# Altium footprint library boards.PcbLib: 2 footprints
Each footprint in its own frame and in the unit in brackets; x right, y up, seen from the top. Pads: shape width x height; smd on the part's side, far side on the other; paste and mask are expansions set on the pad; w line width, h text height; cw(c..) or ccw(c..) is an arc to the next point about the centre after c.
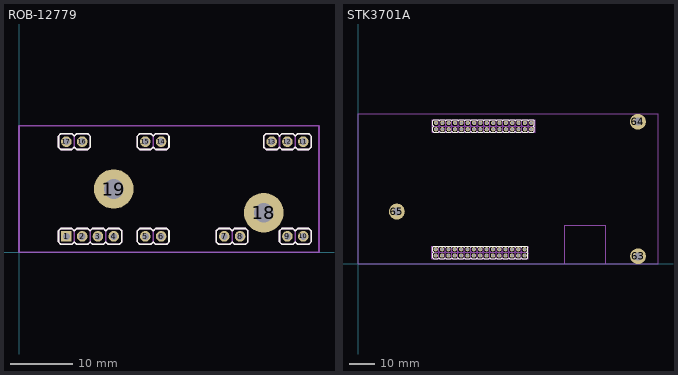
[diagram p0: the footprints below, top view; thin cyan lines are the x and y axes]

## ROB-12779 [mm] "EasyDriver - Stepper Motor Driver"
pads (19):
  rect 1.705x1.705 hole 1.105: 1(7.62,2.54)
  round 1.705 hole 1.105: 2(10.16,2.54) 3(12.7,2.54) 4(15.24,2.54) 5(20.32,2.54) 6(22.86,2.54) 7(33.02,2.54) 8(35.56,2.54) 9(43.18,2.54) 10(45.72,2.54) 11(45.72,17.78) 12(43.18,17.78) 13(40.64,17.78) 14(22.86,17.78) 15(20.32,17.78) 16(10.16,17.78) 17(7.62,17.78)
  round 6.35 hole 3.175: 18(39.37,6.35) 19(15.24,10.16)
Top Overlay:
  lines w0.254: 6.35,1.651 6.35,2.54 6.35,3.429 6.731,3.81 8.382,3.81 8.509,3.81 8.89,3.429 9.271,3.81 10.922,3.81 11.049,3.81 11.43,3.429 11.811,3.81 13.462,3.81 13.589,3.81 13.97,3.429 14.351,3.81 16.002,3.81 16.129,3.81 16.51,3.429 16.51,2.54 16.51,1.651 16.129,1.27 14.351,1.27 13.97,1.651 13.589,1.27 11.811,1.27 11.43,1.651 11.049,1.27 9.271,1.27 8.89,1.651 8.509,1.27 6.731,1.27 6.35,1.651 ; 6.35,16.891 6.35,17.78 6.35,18.669 6.731,19.05 8.382,19.05 8.509,19.05 8.89,18.669 9.271,19.05 10.922,19.05 11.049,19.05 11.43,18.669 11.43,17.78 11.43,16.891 11.049,16.51 9.271,16.51 8.89,16.891 8.509,16.51 6.731,16.51 6.35,16.891 ; 19.05,1.651 19.431,1.27 21.209,1.27 21.59,1.651 21.971,1.27 23.749,1.27 24.13,1.651 24.13,2.54 24.13,3.429 23.749,3.81 23.622,3.81 21.971,3.81 21.59,3.429 21.209,3.81 21.082,3.81 19.431,3.81 19.05,3.429 19.05,2.54 19.05,1.651 ; 19.05,16.891 19.05,17.78 19.05,18.669 19.431,19.05 21.082,19.05 21.209,19.05 21.59,18.669 21.971,19.05 23.622,19.05 23.749,19.05 24.13,18.669 24.13,17.78 24.13,16.891 23.749,16.51 21.971,16.51 21.59,16.891 21.209,16.51 19.431,16.51 19.05,16.891 ; 31.75,1.651 32.131,1.27 33.909,1.27 34.29,1.651 34.671,1.27 36.449,1.27 36.83,1.651 36.83,2.54 36.83,3.429 36.449,3.81 36.322,3.81 34.671,3.81 34.29,3.429 33.909,3.81 33.782,3.81 32.131,3.81 31.75,3.429 31.75,2.54 31.75,1.651 ; 39.37,16.891 39.751,16.51 41.529,16.51 41.91,16.891 42.291,16.51 44.069,16.51 44.45,16.891 44.831,16.51 46.609,16.51 46.99,16.891 46.99,17.78 46.99,18.669 46.609,19.05 46.482,19.05 44.831,19.05 44.45,18.669 44.069,19.05 43.942,19.05 42.291,19.05 41.91,18.669 41.529,19.05 41.402,19.05 39.751,19.05 39.37,18.669 39.37,17.78 39.37,16.891 ; 41.91,1.651 41.91,2.54 41.91,3.429 42.291,3.81 43.942,3.81 44.069,3.81 44.45,3.429 44.831,3.81 46.482,3.81 46.609,3.81 46.99,3.429 46.99,2.54 46.99,1.651 46.609,1.27 44.831,1.27 44.45,1.651 44.069,1.27 42.291,1.27 41.91,1.651
Mechanical 1:
  lines w0.254: 0,0 0,20.32 48.26,20.32 48.26,0 0,0
Mechanical 13:
  drawing of 194 lines, arcs and shapes, not listed
3D body: height 11.43, standoff -3.05, extent 42.862,2.222 43.497,2.857
3D body: height 2.54, standoff 0, extent 41.91,1.27 44.45,3.81
3D body: height 2.54, standoff 0, extent 44.45,1.27 46.99,3.81
3D body: height 11.43, standoff -3.05, extent 45.402,2.222 46.038,2.857
3D body: height 11.43, standoff -3.05, extent 20.002,17.462 20.637,18.098
3D body: height 2.54, standoff 0, extent 19.05,16.51 21.59,19.05
3D body: height 2.54, standoff 0, extent 21.59,16.51 24.13,19.05
3D body: height 11.43, standoff -3.05, extent 22.543,17.462 23.177,18.098
3D body: height 2.54, standoff 0, extent 6.35,1.27 8.89,3.81
3D body: height 11.43, standoff -3.05, extent 7.302,2.222 7.938,2.857
3D body: height 11.43, standoff -3.05, extent 14.922,2.222 15.557,2.857
3D body: height 2.54, standoff 0, extent 13.97,1.27 16.51,3.81
3D body: height 2.54, standoff 0, extent 11.43,1.27 13.97,3.81
3D body: height 11.43, standoff -3.05, extent 12.383,2.222 13.018,2.857
3D body: height 11.43, standoff -3.05, extent 9.842,2.222 10.477,2.857
3D body: height 2.54, standoff 0, extent 8.89,1.27 11.43,3.81
3D body: height 11.43, standoff -3.05, extent 7.302,17.462 7.938,18.098
3D body: height 2.54, standoff 0, extent 6.35,16.51 8.89,19.05
3D body: height 2.54, standoff 0, extent 8.89,16.51 11.43,19.05
3D body: height 11.43, standoff -3.05, extent 9.842,17.462 10.477,18.098
3D body: height 2.54, standoff 0, extent 39.37,16.51 41.91,19.05
3D body: height 11.43, standoff -3.05, extent 40.322,17.462 40.957,18.098
3D body: height 11.43, standoff -3.05, extent 42.862,17.462 43.497,18.098
3D body: height 2.54, standoff 0, extent 41.91,16.51 44.45,19.05
3D body: height 2.54, standoff 0, extent 44.45,16.51 46.99,19.05
3D body: height 11.43, standoff -3.05, extent 45.402,17.462 46.038,18.098
3D body: height 11.43, standoff -3.05, extent 22.543,2.222 23.177,2.857
3D body: height 2.54, standoff 0, extent 21.59,1.27 24.13,3.81
3D body: height 2.54, standoff 0, extent 19.05,1.27 21.59,3.81
3D body: height 11.43, standoff -3.05, extent 20.002,2.222 20.637,2.857
3D body: height 11.43, standoff -3.05, extent 35.242,2.222 35.877,2.857
3D body: height 2.54, standoff 0, extent 34.29,1.27 36.83,3.81
3D body: height 2.54, standoff 0, extent 31.75,1.27 34.29,3.81
3D body: height 11.43, standoff -3.05, extent 32.703,2.222 33.337,2.857

## STK3701A [mm]
pads (65):
  round 1.705 hole 1.105: 1(31.21,56.426) 2(31.21,53.886) 3(33.75,56.426) 4(33.75,53.886) 5(36.29,56.426) 6(36.29,53.886) 7(38.83,56.426) 8(38.83,53.886) 9(41.37,56.426) 10(41.37,53.886) 11(43.91,56.426) 12(43.91,53.886) 13(46.45,56.426) 14(46.45,53.886) 15(48.99,56.426) 16(48.99,53.886) 17(51.53,56.426) 18(51.53,53.886) 19(54.07,56.426) 20(54.07,53.886) 21(56.61,56.426) 22(56.61,53.886) 23(59.15,56.426) 24(59.15,53.886) 25(61.69,56.426) 26(61.69,53.886) 27(64.23,56.426) 28(64.23,53.886) 29(66.77,56.426) 30(66.77,53.886) 31(69.31,56.426) 32(69.31,53.886) 33(31.1,5.893) 34(31.1,3.353) 35(33.64,5.893) 36(33.64,3.353) 37(36.18,5.893) 38(36.18,3.353) 39(38.72,5.893) 40(38.72,3.353) 41(41.26,5.893) 42(41.26,3.353) 43(43.8,5.893) 44(43.8,3.353) 45(46.34,5.893) 46(46.34,3.353) 47(48.88,5.893) 48(48.88,3.353) 49(51.42,5.893) 50(51.42,3.353) 51(53.96,5.893) 52(53.96,3.353) 53(56.5,5.893) 54(56.5,3.353) 55(59.04,5.893) 56(59.04,3.353) 57(61.58,5.893) 58(61.58,3.353) 59(64.12,5.893) 60(64.12,3.353) 61(66.66,5.893) 62(66.66,3.353)
  round 6.35 hole 3.175: 63(112.025,3.075) 64(111.97,56.91) 65(15.545,20.955)
Top Overlay:
  drawing of 272 lines, arcs and shapes, not listed
Mechanical 1:
  lines w0.254: 82.7,0 82.7,15.5 99.2,15.5 99.2,0 ; 0,0 0,60 120,60 120,0 0,0 ; 29.576,2.083 68.184,2.083 68.184,7.163 29.576,7.163 29.576,2.083 ; 29.686,52.616 29.686,57.696 70.834,57.696 70.834,52.616 29.686,52.616
Mechanical 13:
  drawing of 685 lines, arcs and shapes, not listed
3D body: height 11.43, standoff -3.05, extent 30.783,5.575 31.418,6.21
3D body: height 2.54, standoff 0, extent 29.83,4.623 32.37,7.163
3D body: height 2.54, standoff 0, extent 29.83,2.083 32.37,4.623
3D body: height 11.43, standoff -3.05, extent 30.783,3.036 31.418,3.671
3D body: height 11.43, standoff -3.05, extent 33.323,5.575 33.958,6.21
3D body: height 2.54, standoff 0, extent 32.37,4.623 34.91,7.163
3D body: height 2.54, standoff 0, extent 32.37,2.083 34.91,4.623
3D body: height 11.43, standoff -3.05, extent 33.323,3.036 33.958,3.671
3D body: height 11.43, standoff -3.05, extent 35.863,5.575 36.498,6.21
3D body: height 2.54, standoff 0, extent 34.91,4.623 37.45,7.163
3D body: height 2.54, standoff 0, extent 34.91,2.083 37.45,4.623
3D body: height 11.43, standoff -3.05, extent 35.863,3.036 36.498,3.671
3D body: height 11.43, standoff -3.05, extent 38.403,5.575 39.038,6.21
3D body: height 2.54, standoff 0, extent 37.45,4.623 39.99,7.163
3D body: height 2.54, standoff 0, extent 37.45,2.083 39.99,4.623
3D body: height 11.43, standoff -3.05, extent 38.403,3.036 39.038,3.671
3D body: height 11.43, standoff -3.05, extent 40.943,5.575 41.578,6.21
3D body: height 2.54, standoff 0, extent 39.99,4.623 42.53,7.163
3D body: height 2.54, standoff 0, extent 39.99,2.083 42.53,4.623
3D body: height 11.43, standoff -3.05, extent 40.943,3.036 41.578,3.671
3D body: height 11.43, standoff -3.05, extent 43.483,5.575 44.118,6.21
3D body: height 2.54, standoff 0, extent 42.53,4.623 45.07,7.163
3D body: height 2.54, standoff 0, extent 42.53,2.083 45.07,4.623
3D body: height 11.43, standoff -3.05, extent 43.483,3.036 44.118,3.671
3D body: height 11.43, standoff -3.05, extent 46.023,5.575 46.658,6.21
3D body: height 2.54, standoff 0, extent 45.07,4.623 47.61,7.163
3D body: height 2.54, standoff 0, extent 45.07,2.083 47.61,4.623
3D body: height 11.43, standoff -3.05, extent 46.023,3.036 46.658,3.671
3D body: height 11.43, standoff -3.05, extent 48.563,5.575 49.198,6.21
3D body: height 2.54, standoff 0, extent 47.61,4.623 50.15,7.163
3D body: height 2.54, standoff 0, extent 47.61,2.083 50.15,4.623
3D body: height 11.43, standoff -3.05, extent 48.563,3.036 49.198,3.671
3D body: height 11.43, standoff -3.05, extent 51.103,5.575 51.738,6.21
3D body: height 2.54, standoff 0, extent 50.15,4.623 52.69,7.163
3D body: height 2.54, standoff 0, extent 50.15,2.083 52.69,4.623
3D body: height 11.43, standoff -3.05, extent 51.103,3.036 51.738,3.671
3D body: height 11.43, standoff -3.05, extent 53.643,5.575 54.278,6.21
3D body: height 2.54, standoff 0, extent 52.69,4.623 55.23,7.163
3D body: height 2.54, standoff 0, extent 52.69,2.083 55.23,4.623
3D body: height 11.43, standoff -3.05, extent 53.643,3.036 54.278,3.671
3D body: height 11.43, standoff -3.05, extent 56.183,5.575 56.818,6.21
3D body: height 2.54, standoff 0, extent 55.23,4.623 57.77,7.163
3D body: height 2.54, standoff 0, extent 55.23,2.083 57.77,4.623
3D body: height 11.43, standoff -3.05, extent 56.183,3.036 56.818,3.671
3D body: height 11.43, standoff -3.05, extent 58.723,5.575 59.358,6.21
3D body: height 2.54, standoff 0, extent 57.77,4.623 60.31,7.163
3D body: height 2.54, standoff 0, extent 57.77,2.083 60.31,4.623
3D body: height 11.43, standoff -3.05, extent 58.723,3.036 59.358,3.671
3D body: height 11.43, standoff -3.05, extent 61.262,5.575 61.897,6.21
3D body: height 2.54, standoff 0, extent 60.31,4.623 62.85,7.163
3D body: height 2.54, standoff 0, extent 60.31,2.083 62.85,4.623
3D body: height 11.43, standoff -3.05, extent 61.262,3.035 61.897,3.67
3D body: height 11.43, standoff -3.05, extent 63.802,3.035 64.437,3.67
3D body: height 2.54, standoff 0, extent 62.85,2.083 65.39,4.623
3D body: height 2.54, standoff 0, extent 65.39,2.083 67.93,4.623
3D body: height 11.43, standoff -3.05, extent 66.342,3.035 66.977,3.67
3D body: height 11.43, standoff -3.05, extent 66.342,5.575 66.977,6.21
3D body: height 2.54, standoff 0, extent 65.39,4.623 67.93,7.163
3D body: height 2.54, standoff 0, extent 62.85,4.623 65.39,7.163
3D body: height 11.43, standoff -3.05, extent 63.802,5.575 64.437,6.21
3D body: height 11.43, standoff -3.05, extent 66.452,56.109 67.087,56.744
3D body: height 2.54, standoff 0, extent 65.5,55.156 68.04,57.696
3D body: height 2.54, standoff 0, extent 68.04,55.156 70.58,57.696
3D body: height 11.43, standoff -3.05, extent 68.992,56.109 69.627,56.744
3D body: height 11.43, standoff -3.05, extent 68.992,53.569 69.627,54.204
3D body: height 2.54, standoff 0, extent 68.04,52.616 70.58,55.156
3D body: height 2.54, standoff 0, extent 65.5,52.616 68.04,55.156
3D body: height 11.43, standoff -3.05, extent 66.452,53.569 67.087,54.204
3D body: height 11.43, standoff -3.05, extent 63.912,53.569 64.547,54.204
3D body: height 2.54, standoff 0, extent 62.96,52.616 65.5,55.156
3D body: height 2.54, standoff 0, extent 62.96,55.156 65.5,57.696
3D body: height 11.43, standoff -3.05, extent 63.912,56.109 64.547,56.744
3D body: height 11.43, standoff -3.05, extent 61.372,53.569 62.007,54.204
3D body: height 2.54, standoff 0, extent 60.42,52.616 62.96,55.156
3D body: height 2.54, standoff 0, extent 60.42,55.156 62.96,57.696
3D body: height 11.43, standoff -3.05, extent 61.372,56.109 62.007,56.744
3D body: height 11.43, standoff -3.05, extent 58.832,53.569 59.467,54.204
3D body: height 2.54, standoff 0, extent 57.88,52.616 60.42,55.156
3D body: height 2.54, standoff 0, extent 57.88,55.156 60.42,57.696
3D body: height 11.43, standoff -3.05, extent 58.832,56.109 59.467,56.744
3D body: height 11.43, standoff -3.05, extent 56.292,53.569 56.927,54.204
3D body: height 2.54, standoff 0, extent 55.34,52.616 57.88,55.156
3D body: height 2.54, standoff 0, extent 55.34,55.156 57.88,57.696
3D body: height 11.43, standoff -3.05, extent 56.292,56.109 56.927,56.744
3D body: height 11.43, standoff -3.05, extent 53.752,53.569 54.387,54.204
3D body: height 2.54, standoff 0, extent 52.8,52.616 55.34,55.156
3D body: height 2.54, standoff 0, extent 52.8,55.156 55.34,57.696
3D body: height 11.43, standoff -3.05, extent 53.752,56.109 54.387,56.744
3D body: height 11.43, standoff -3.05, extent 51.212,53.569 51.847,54.204
3D body: height 2.54, standoff 0, extent 50.26,52.616 52.8,55.156
3D body: height 2.54, standoff 0, extent 50.26,55.156 52.8,57.696
3D body: height 11.43, standoff -3.05, extent 51.212,56.109 51.847,56.744
3D body: height 11.43, standoff -3.05, extent 48.672,53.569 49.307,54.204
3D body: height 2.54, standoff 0, extent 47.72,52.616 50.26,55.156
3D body: height 2.54, standoff 0, extent 47.72,55.156 50.26,57.696
3D body: height 11.43, standoff -3.05, extent 48.672,56.109 49.307,56.744
3D body: height 11.43, standoff -3.05, extent 46.132,53.569 46.767,54.204
3D body: height 2.54, standoff 0, extent 45.18,52.616 47.72,55.156
3D body: height 2.54, standoff 0, extent 45.18,55.156 47.72,57.696
3D body: height 11.43, standoff -3.05, extent 46.132,56.109 46.767,56.744
3D body: height 11.43, standoff -3.05, extent 43.592,53.569 44.227,54.204
3D body: height 2.54, standoff 0, extent 42.64,52.616 45.18,55.156
3D body: height 2.54, standoff 0, extent 42.64,55.156 45.18,57.696
3D body: height 11.43, standoff -3.05, extent 43.592,56.109 44.227,56.744
3D body: height 11.43, standoff -3.05, extent 41.052,53.569 41.687,54.204
3D body: height 2.54, standoff 0, extent 40.1,52.616 42.64,55.156
3D body: height 2.54, standoff 0, extent 40.1,55.156 42.64,57.696
3D body: height 11.43, standoff -3.05, extent 41.052,56.109 41.687,56.744
3D body: height 11.43, standoff -3.05, extent 38.512,53.569 39.147,54.204
3D body: height 2.54, standoff 0, extent 37.56,52.616 40.1,55.156
3D body: height 2.54, standoff 0, extent 37.56,55.156 40.1,57.696
3D body: height 11.43, standoff -3.05, extent 38.512,56.109 39.147,56.744
3D body: height 11.43, standoff -3.05, extent 35.972,53.569 36.607,54.204
3D body: height 2.54, standoff 0, extent 35.02,52.616 37.56,55.156
3D body: height 2.54, standoff 0, extent 35.02,55.156 37.56,57.696
3D body: height 11.43, standoff -3.05, extent 35.972,56.109 36.607,56.744
3D body: height 11.43, standoff -3.05, extent 33.432,53.569 34.067,54.204
3D body: height 2.54, standoff 0, extent 32.48,52.616 35.02,55.156
3D body: height 2.54, standoff 0, extent 32.48,55.156 35.02,57.696
3D body: height 11.43, standoff -3.05, extent 33.432,56.109 34.067,56.744
3D body: height 11.43, standoff -3.05, extent 30.892,53.569 31.527,54.204
3D body: height 2.54, standoff 0, extent 29.94,52.617 32.48,55.157
3D body: height 2.54, standoff 0, extent 29.94,55.156 32.48,57.696
3D body: height 11.43, standoff -3.05, extent 30.892,56.109 31.527,56.744